# EAGLE library part FTDI (library BSB-LAN)
FTDI Basic: 3.3V and 5V
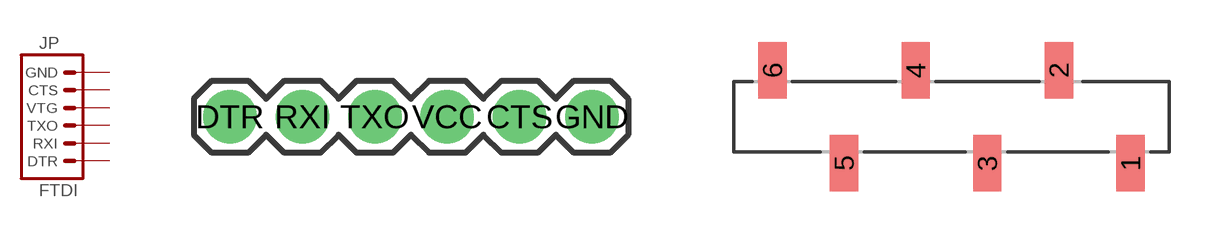
[diagram p7: symbol with the pads of FTDI_BASIC; footprints FTDI_BASIC, 1X06_SMD]

Designator prefix JP

## FTDI-PTH  [FTDI_BASIC]
CTS  CTS  pas
DTR  DTR  pas
GND  GND  pas
RXI  RXI  pas
TXO  TXO  pas
VCC  VTG  pas

## FTDI-SMD (LCSC_PART: C2984277)  [1X06_SMD]
1  DTR  pas
2  RXI  pas
3  TXO  pas
4  VTG  pas
5  CTS  pas
6  GND  pas

## Footprint FTDI_BASIC (pad centres in mm)
drill 1.016 pad 1.88: CTS 10.16,0; DTR 0,0; GND 12.7,0; RXI 2.54,0; TXO 5.08,0; VCC 7.62,0

## Footprint 1X06_SMD (pad centres in mm)
smd 1 x 2: 1 6.35,-1.65; 2 3.81,1.65; 3 1.27,-1.65; 4 -1.27,1.65; 5 -3.81,-1.65; 6 -6.35,1.65